# EAGLE library part MP45DT02 (library electronic-labs)
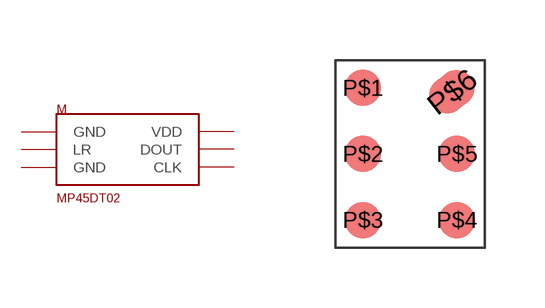
[diagram p7: symbol with the pads of HLGA-6LD; footprint HLGA-6LD]

Designator prefix M

## MP45DT02  [HLGA-6LD]
P$1  GND  pwr
P$2  LR
P$3  GND  pwr
P$4  CLK
P$5  DOUT
P$6  VDD

## Footprint HLGA-6LD (pad centres in mm)
smd 0.91 x 0.91: P$1 -1.175,1.651; P$2 -1.175,0; P$3 -1.175,-1.651; P$4 1.175,-1.651; P$5 1.175,0
smd 0.91 x 1.2 rotated 128: P$6 1.048,1.556